# Altium schematic symbol library 691 210 910 0xx.SchLib: 6 symbols
Pins are listed as number, name and electrical type; pins without a type are passive.

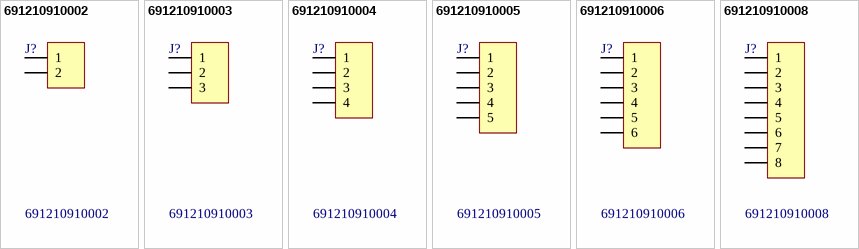
[diagram p0: symbols 691210910002 to 691210910008]

## 691210910002
designator J?
WR-TBL Terminal Blocks Serie 2109 - 2.54 mm with Rising Cage Clamp; Manufacturer: Würth Elektronik eiSos GmbH; ComponentLink1 Description: Manufacturer; ComponentLink2 Description: Datasheet; NoPins: 2; Created Date: 8 Novenber 2013; partNo: 691210910002; ComponentLink1URL: http://www.we-online.com; ComponentLink2URL: http://katalog.we-online.de/em/datasheet/6912109100xx.pdf; Created by: Karrer Zheng
footprint 691210910002 (2,54mm - modular - green - Horizontal wire entry - Cage clamp - 0,8mm2 wires - 02p)
pins: 1, 2

## 691210910003
designator J?
WR-TBL Terminal Blocks Serie 2109 - 2.54 mm with Rising Cage Clamp; Manufacturer: Würth Elektronik eiSos GmbH; ComponentLink1 Description: Manufacturer; ComponentLink2 Description: Datasheet; NoPins: 3; Created Date: 8 Novenber 2013; partNo: 691210910003; ComponentLink1URL: http://www.we-online.com; ComponentLink2URL: http://katalog.we-online.de/em/datasheet/6912109100xx.pdf; Created by: Karrer Zheng
footprint 691210910003 (2,54mm - modular - green - Horizontal wire entry - Cage clamp - 0,8mm2 wires - 03p)
pins: 1, 2, 3

## 691210910004
designator J?
WR-TBL Terminal Blocks Serie 2109 - 2.54 mm with Rising Cage Clamp; Manufacturer: Würth Elektronik eiSos GmbH; ComponentLink1 Description: Manufacturer; ComponentLink2 Description: Datasheet; NoPins: 4; Created Date: 8 Novenber 2013; partNo: 691210910004; ComponentLink1URL: http://www.we-online.com; ComponentLink2URL: http://katalog.we-online.de/em/datasheet/6912109100xx.pdf; Created by: Karrer Zheng
footprint 691210910004 (2,54mm - modular - green - Horizontal wire entry - Cage clamp - 0,8mm2 wires - 04p)
pins: 1, 2, 3, 4

## 691210910005
designator J?
WR-TBL Terminal Blocks Serie 2109 - 2.54 mm with Rising Cage Clamp; Manufacturer: Würth Elektronik eiSos GmbH; ComponentLink1 Description: Manufacturer; ComponentLink2 Description: Datasheet; NoPins: 5; Created Date: 8 Novenber 2013; partNo: 691210910005; ComponentLink1URL: http://www.we-online.com; ComponentLink2URL: http://katalog.we-online.de/em/datasheet/6912109100xx.pdf; Created by: Karrer Zheng
footprint 691210910005 (2,54mm - modular - green - Horizontal wire entry - Cage clamp - 0,8mm2 wires - 05p)
pins: 1, 2, 3, 4, 5

## 691210910006
designator J?
WR-TBL Terminal Blocks Serie 2109 - 2.54 mm with Rising Cage Clamp; Manufacturer: Würth Elektronik eiSos GmbH; ComponentLink1 Description: Manufacturer; ComponentLink2 Description: Datasheet; NoPins: 6; Created Date: 8 Novenber 2013; partNo: 691210910006; ComponentLink1URL: http://www.we-online.com; ComponentLink2URL: http://katalog.we-online.de/em/datasheet/6912109100xx.pdf; Created by: Karrer Zheng
footprint 691210910006 (2,54mm - modular - green - Horizontal wire entry - Cage clamp - 0,8mm2 wires - 06p)
pins: 1, 2, 3, 4, 5, 6

## 691210910008
designator J?
WR-TBL Terminal Blocks Serie 2109 - 2.54 mm with Rising Cage Clamp; Manufacturer: Würth Elektronik eiSos GmbH; ComponentLink1 Description: Manufacturer; ComponentLink2 Description: Datasheet; NoPins: 8; Created Date: 8 Novenber 2013; partNo: 691210910008; ComponentLink1URL: http://www.we-online.com; ComponentLink2URL: http://katalog.we-online.de/em/datasheet/6912109100xx.pdf; Created by: Karrer Zheng
footprint 691210910008 (2,54mm - modular - green - Horizontal wire entry - Cage clamp - 0,8mm2 wires - 08p)
pins: 1, 2, 3, 4, 5, 6, 7, 8